# EAGLE library part SDIN8-GENEVE (library 838_Components)
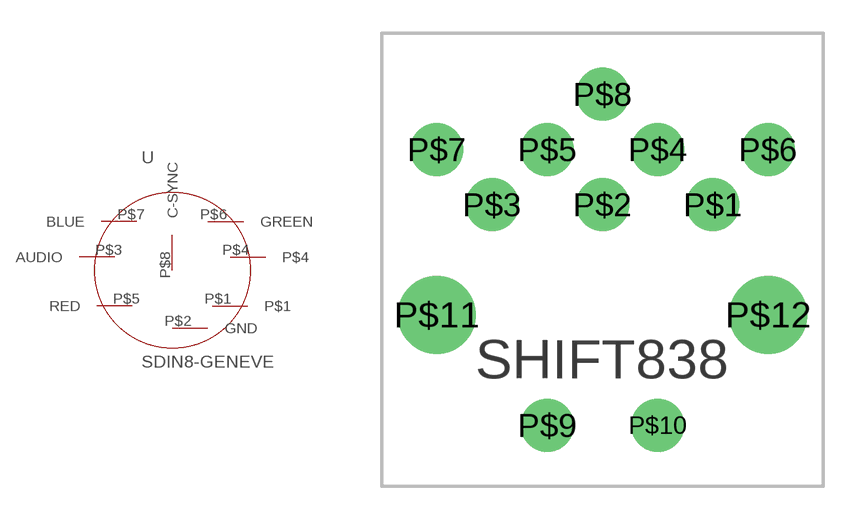
[diagram p3: symbol with the pads of STANDARD_DIN; footprint STANDARD_DIN]

Designator prefix -

## SDIN8-GENEVE  [STANDARD_DIN]
P$1  P$1
P$2  GND
P$3  AUDIO
P$4  P$4
P$5  RED
P$6  GREEN
P$7  BLUE
P$8  C-SYNC

## Footprint STANDARD_DIN (pad centres in mm)
drill 1.6: P$1 9.5,-1; P$2 4.5,-1; P$3 -0.5,-1; P$4 7,1.5; P$5 2,1.5; P$6 12,1.5; P$7 -3,1.5; P$8 4.5,4; P$9 2,-11; P$10 7,-11
drill 2.515: P$11 -3,-6; P$12 12,-6